# EAGLE library part ISEN_HO (library wheat)
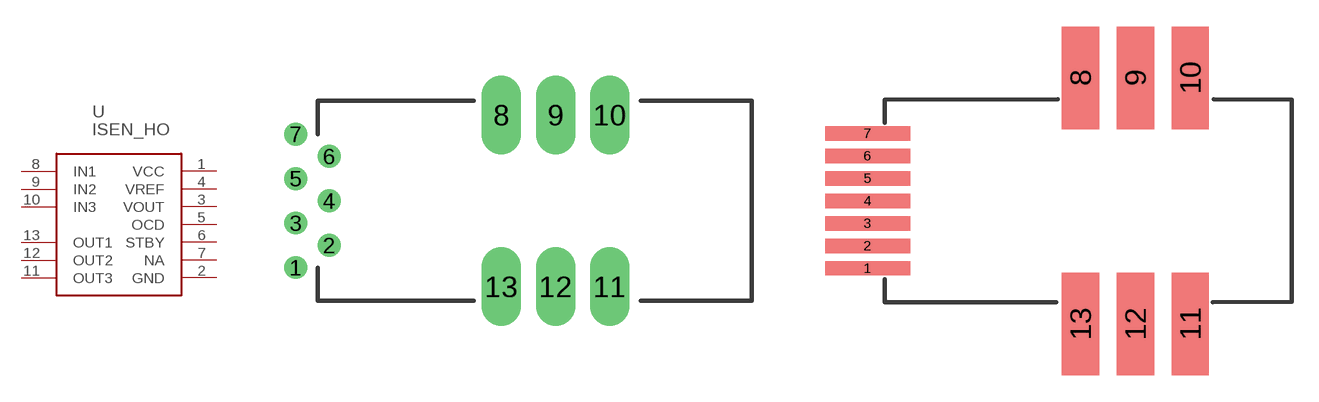
[diagram p170: symbol with the pads of ISEN_HO; footprints ISEN_HO, ISEN_HOSM]

Designator prefix U

## ISEN_HO  [ISEN_HO]
1  VCC
2  GND
3  VOUT
4  VREF
5  OCD
6  STBY
7  NA
8  IN1
9  IN2
10  IN3
11  OUT3
12  OUT2
13  OUT1

## ISEN_HO_SM  [ISEN_HOSM]
Pads as for ISEN_HO

## Footprint ISEN_HO (pad centres in mm)
drill 0.8: 1 -1.905,-3.81; 2 0,-2.54; 3 -1.905,-1.27; 4 0,0; 5 -1.905,1.27; 6 0,2.54; 7 -1.905,3.81
drill 1.5 long: 8 9.83,4.9; 9 12.929,4.9; 10 16.027,4.9; 11 16.027,-4.9; 12 12.929,-4.9; 13 9.83,-4.9

## Footprint ISEN_HOSM (pad centres in mm)
smd 4.8 x 0.8: 1 0,-3.81; 2 0,-2.54; 3 0,-1.27; 4 0,0; 5 0,1.27; 6 0,2.54; 7 0,3.81
smd 2.1 x 5.8: 8 12.03,6.95; 9 15.13,6.95; 10 18.23,6.95; 11 18.23,-6.95; 12 15.13,-6.95; 13 12.03,-6.95